# Altium footprint library OPB609GU.PcbLib: 1 footprints
Each footprint in its own frame and in the unit in brackets; x right, y up, seen from the top. Pads: shape width x height; smd on the part's side, far side on the other; paste and mask are expansions set on the pad; w line width, h text height; cw(c..) or ccw(c..) is an arc to the next point about the centre after c.
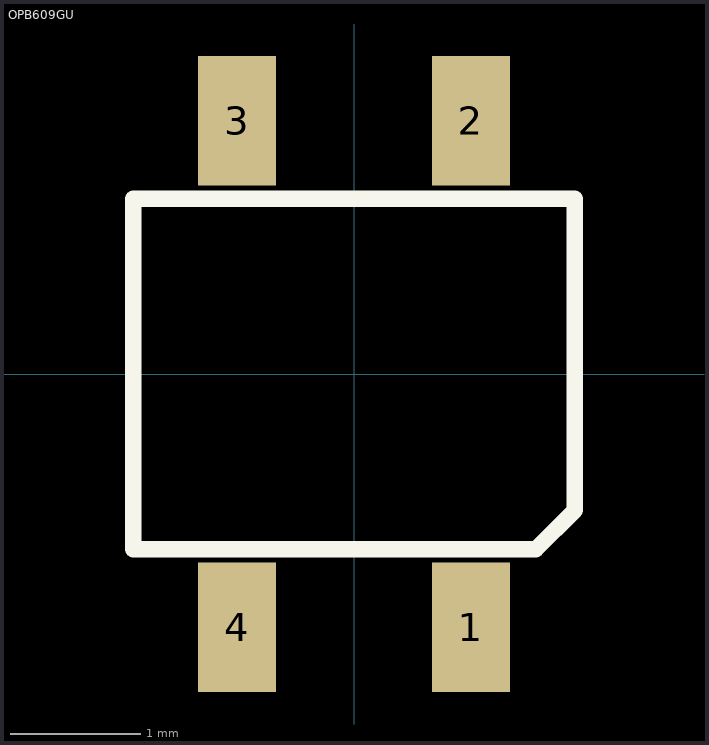
[diagram p0: the footprint, top view; thin cyan lines are the x and y axes]

## OPB609GU [mm] "Optek OPB609GU (Compatible with Fairchild QRE1113GR)"
height 1.5
pads (4):
  rect 0.6x1 smd: 1(0.9,-1.95) 2(0.9,1.95) 3(-0.9,1.95) 4(-0.9,-1.95)
Top Overlay:
  lines w0.127: -1.7,-1.35 1.4,-1.35 1.7,-1.05 1.7,1.35 -1.7,1.35 -1.7,-1.35
3D body: height 0.2, standoff 0, extent 0.65,-2.35 1.15,-1.35
3D body: height 0.2, standoff 0, extent -1.15,-2.35 -0.65,-1.35
3D body: height 0.2, standoff 0, extent -1.15,1.325 -0.65,2.325
3D body: height 0.2, standoff 0, extent 0.65,1.35 1.15,2.35
3D body: height 1.6, standoff 0, extent -1.701,-1.351 1.701,1.351